# Altium footprint library controller_V1.01.PcbLib: 68 footprints (part 1 of 5)
Each footprint in its own frame and in the unit in brackets; x right, y up, seen from the top. Pads: shape width x height; smd on the part's side, far side on the other; paste and mask are expansions set on the pad; w line width, h text height; cw(c..) or ccw(c..) is an arc to the next point about the centre after c.
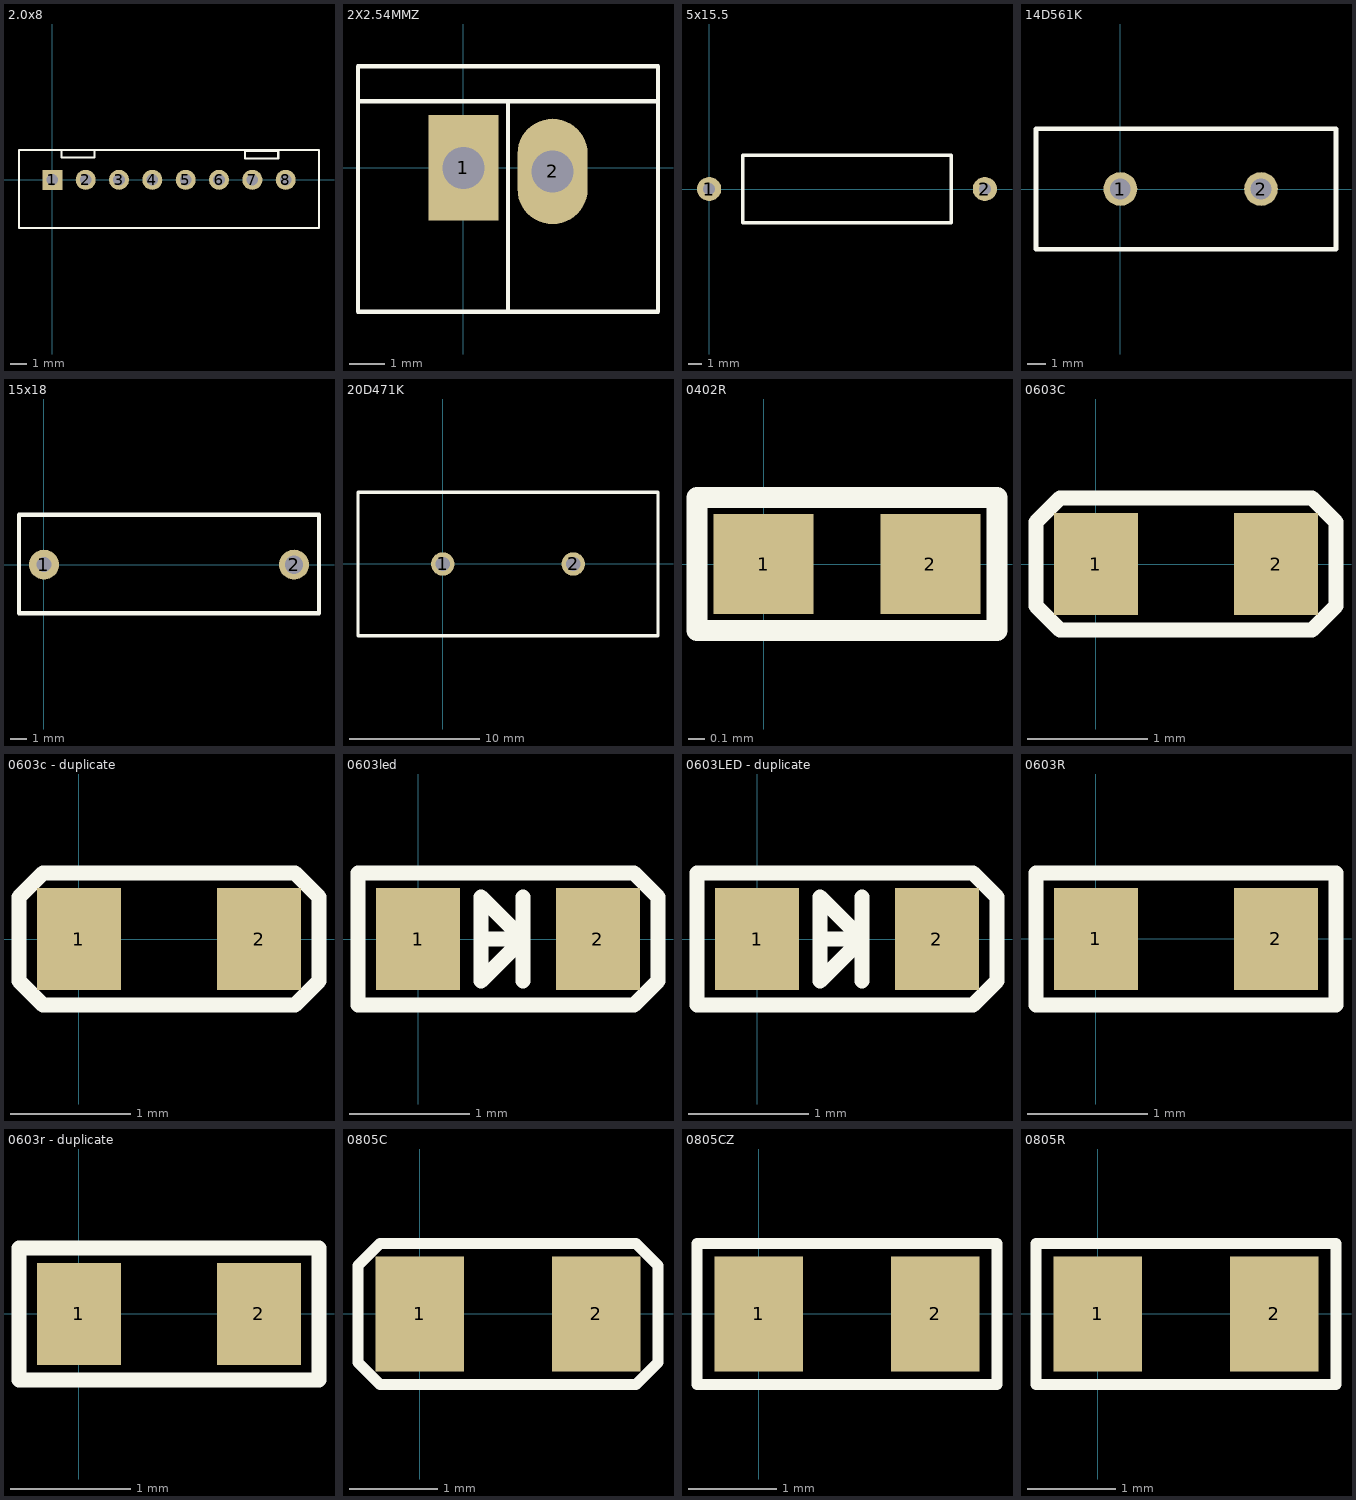
[diagram p0: the footprints below, top view; thin cyan lines are the x and y axes]

## 2.0x8 [mm]
pads (8):
  rect 1.2x1.2 hole 0.7: 1(0,0)
  round 1.2 hole 0.7: 2(2,0) 3(4,0) 4(6,0) 5(8,0) 6(10,0) 7(12,0) 8(14,0)
Top Overlay:
  lines w0.127: -2,-2.9 16,-2.9 16,1.8 -2,1.8 -2,-2.868 ; 0.54,1.8 0.54,1.343 2.54,1.343 2.54,1.8 ; 11.557,1.27 11.557,1.727 13.557,1.727 13.557,1.27 11.557,1.27

## 2X2.54MMZ [mm]
pads (2):
  rect 2x3 hole 1.2: 1(0,0)
  oval 2x3 hole 1.2: 2(2.54,-0.1)
Top Overlay:
  lines w0.127: -3,1.9 5.54,1.9 ; 1.27,-4.1 1.27,1.9 ; -3,-4.1 5.54,-4.1 5.54,2.9 -3,2.9 -3,-4.1

## 5x15.5 [mm]
pads (2):
  round 1.8 hole 0.9: 1(0,0) 2(20.5,0)
Top Overlay:
  lines w0.254: 2.5,-2.5 2.5,2.5 18,2.5 18,-2.5 2.5,-2.5

## 14D561K [mm]
pads (2):
  round 1.8 hole 1.1: 1(0,0) 2(7.5,0)
Top Overlay:
  lines w0.254: 11.5,-3.21 -4.5,-3.21 -4.5,3.21 11.5,3.21 11.5,-3.175

## 15x18 [mm]
pads (2):
  round 1.8 hole 0.9: 1(0,0)
  round 1.8 hole 1.1: 2(15,0)
Top Overlay:
  lines w0.254: -1.5,-2.921 -1.5,3 16.5,3 16.5,-2.921 -1.397,-2.921

## 20D471K [mm]
pads (2):
  round 1.8 hole 1.1: 1(0,0) 2(10,0)
Top Overlay:
  lines w0.254: 16.5,-5.5 -6.5,-5.5 -6.5,5.5 16.5,5.5 16.5,-5.422

## 0402R [mm]
pads (2):
  rect 0.6x0.6 smd: 1(0,0) 2(1,0)
Top Overlay:
  lines w0.127: -0.4,-0.4 -0.4,0.4 1.4,0.4 1.4,-0.4 -0.4,-0.4

## 0603C [mm]
pads (2):
  rect 0.7x0.85 smd: 1(0,0) 2(1.5,0)
Top Overlay:
  lines w0.127: -0.5,-0.35 -0.3,-0.55 1.8,-0.55 2,-0.35 2,0.35 1.8,0.55 -0.3,0.55 -0.5,0.35 -0.5,-0.35

## 0603c - duplicate [mm]
pads (2):
  rect 0.7x0.85 smd: 1(0,0) 2(1.5,0)
Top Overlay:
  lines w0.127: -0.5,-0.35 -0.3,-0.55 1.8,-0.55 2,-0.35 2,0.35 1.8,0.55 -0.3,0.55 -0.5,0.35 -0.5,-0.35

## 0603led [mm]
pads (2):
  rect 0.7x0.85 smd: 1(0,0) 2(1.5,0)
Top Overlay:
  lines w0.127: 0.525,0 0.875,0 ; 0.875,-0.35 0.875,0.35 ; 0.875,0 0.525,-0.35 0.525,0.35 0.875,0 ; -0.5,-0.55 1.8,-0.55 2,-0.35 2,0.35 1.8,0.55 -0.5,0.55 -0.5,-0.55

## 0603LED - duplicate [mm]
pads (2):
  rect 0.7x0.85 smd: 1(0,0) 2(1.5,0)
Top Overlay:
  lines w0.127: 0.525,0 0.875,0 ; 0.875,-0.35 0.875,0.35 ; 0.875,0 0.525,-0.35 0.525,0.35 0.875,0 ; -0.5,-0.55 1.8,-0.55 2,-0.35 2,0.35 1.8,0.55 -0.5,0.55 -0.5,-0.55

## 0603R [mm]
pads (2):
  rect 0.7x0.85 smd: 1(0,0) 2(1.5,0)
Top Overlay:
  lines w0.127: -0.5,-0.55 2,-0.55 2,0.55 -0.5,0.55 -0.5,-0.55

## 0603r - duplicate [mm]
pads (2):
  rect 0.7x0.85 smd: 1(0,0) 2(1.5,0)
Top Overlay:
  lines w0.127: -0.5,-0.55 -0.5,0.55 2,0.55 2,-0.55 -0.5,-0.55

## 0805C [mm]
pads (2):
  rect 1x1.3 smd: 1(0,0) 2(2,0)
Top Overlay:
  lines w0.127: 2.45,-0.8 -0.45,-0.8 -0.7,-0.55 -0.7,0.55 -0.45,0.8 2.45,0.8 2.7,0.55 2.7,-0.55 2.45,-0.8 ; 2.45,-0.8 2.45,-0.8

## 0805CZ [mm]
pads (2):
  rect 1x1.3 smd: 1(0,0) 2(2,0)
Top Overlay:
  lines w0.127: -0.7,-0.8 -0.7,0.8 2.7,0.8 2.7,-0.8 -0.7,-0.8 ; 2.45,-0.8 2.45,-0.8

## 0805R [mm]
pads (2):
  rect 1x1.3 smd: 1(0,0) 2(2,0)
Top Overlay:
  lines w0.127: -0.7,-0.8 2.7,-0.8 2.7,0.8 -0.7,0.8 -0.7,-0.8 ; 2.45,-0.8 2.45,-0.8